# Altium footprint library Discrete_t1.PcbLib: 293 footprints (part 14 of 19)
Each footprint in its own frame and in the unit in brackets; x right, y up, seen from the top. Pads: shape width x height; smd on the part's side, far side on the other; paste and mask are expansions set on the pad; w line width, h text height; cw(c..) or ccw(c..) is an arc to the next point about the centre after c.
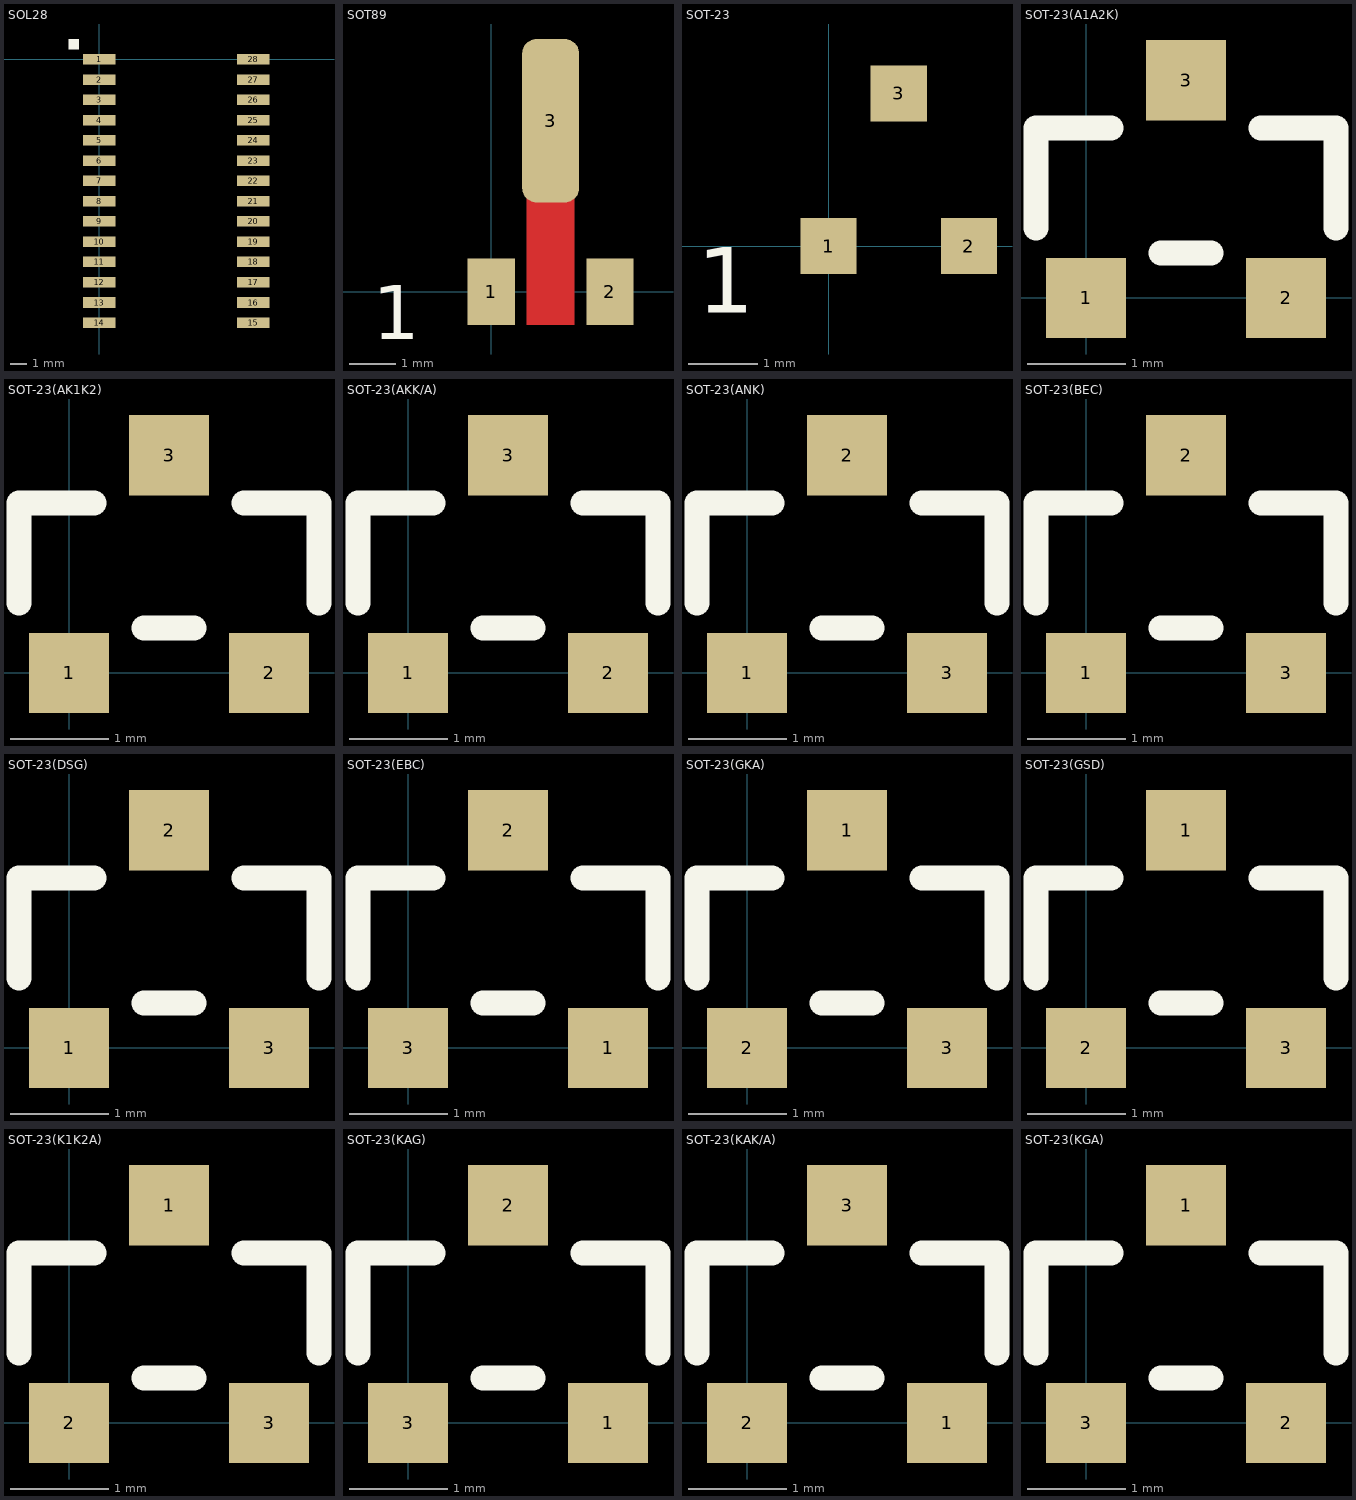
[diagram p13: the footprints below, top view; thin cyan lines are the x and y axes]

## SOL28 [mil]
pads (28):
  rect 80x26 smd: 1(0,0) 2(0,-50) 3(0,-100) 4(0,-150) 5(0,-200) 6(0,-250) 7(0,-300) 8(0,-350) 9(0,-400) 10(0,-450) 11(0,-500) 12(0,-550) 13(0,-600) 14(0,-650) 15(380,-650) 16(380,-600) 17(380,-550) 18(380,-500) 19(380,-450) 20(380,-400) 21(380,-350) 22(380,-300) 23(380,-250) 24(380,-200) 25(380,-150) 26(380,-100) 27(380,-50) 28(380,0)
Top Overlay:
  region: -75,25 -50,25 -50,50 -75,50

## SOT89 [mil]
pads (3):
  rect 40x56 smd: 1(0,0) 2(100,0)
  rrect50% 48x138 smd: 3(50,144)
Top Layer:
  region: 30,-28 70,-28 70,80 30,80
Top Overlay:
  text "1" at -100,-40 h45.62

## SOT-23 [mil]
pads (3):
  rect 32x32 smd: 1(0,0) 2(80,0) 3(40,87)
Top Overlay:
  text "1" at -75,-38 h37.5

## SOT-23(A1A2K) [mil]
pads (3):
  rect 32x32 smd: 1(0,0) 2(80,0) 3(40,87)
Top Overlay:
  lines w10: -20,28 -20,68 10,68 ; 30,18 50,18 ; 70,68 100,68 100,28

## SOT-23(AK1K2) [mil]
pads (3):
  rect 32x32 smd: 1(0,0) 2(80,0) 3(40,87)
Top Overlay:
  lines w10: -20,28 -20,68 10,68 ; 30,18 50,18 ; 70,68 100,68 100,28

## SOT-23(AKK/A) [mil]
pads (3):
  rect 32x32 smd: 1(0,0) 2(80,0) 3(40,87)
Top Overlay:
  lines w10: -20,28 -20,68 10,68 ; 30,18 50,18 ; 70,68 100,68 100,28

## SOT-23(ANK) [mil]
pads (3):
  rect 32x32 smd: 1(0,0) 2(40,87) 3(80,0)
Top Overlay:
  lines w10: -20,28 -20,68 10,68 ; 30,18 50,18 ; 70,68 100,68 100,28

## SOT-23(BEC) [mil]
pads (3):
  rect 32x32 smd: 1(0,0) 2(40,87) 3(80,0)
Top Overlay:
  lines w10: -20,28 -20,68 10,68 ; 30,18 50,18 ; 70,68 100,68 100,28

## SOT-23(DSG) [mil]
pads (3):
  rect 32x32 smd: 1(0,0) 2(40,87) 3(80,0)
Top Overlay:
  lines w10: -20,28 -20,68 10,68 ; 30,18 50,18 ; 70,68 100,68 100,28

## SOT-23(EBC) [mil]
pads (3):
  rect 32x32 smd: 1(80,0) 2(40,87) 3(0,0)
Top Overlay:
  lines w10: -20,28 -20,68 10,68 ; 30,18 50,18 ; 70,68 100,68 100,28

## SOT-23(GKA) [mil]
pads (3):
  rect 32x32 smd: 1(40,87) 2(0,0) 3(80,0)
Top Overlay:
  lines w10: -20,28 -20,68 10,68 ; 30,18 50,18 ; 70,68 100,68 100,28

## SOT-23(GSD) [mil]
pads (3):
  rect 32x32 smd: 1(40,87) 2(0,0) 3(80,0)
Top Overlay:
  lines w10: -20,28 -20,68 10,68 ; 30,18 50,18 ; 70,68 100,68 100,28

## SOT-23(K1K2A) [mil]
pads (3):
  rect 32x32 smd: 1(40,87) 2(0,0) 3(80,0)
Top Overlay:
  lines w10: -20,28 -20,68 10,68 ; 30,18 50,18 ; 70,68 100,68 100,28

## SOT-23(KAG) [mil]
pads (3):
  rect 32x32 smd: 1(80,0) 2(40,87) 3(0,0)
Top Overlay:
  lines w10: -20,28 -20,68 10,68 ; 30,18 50,18 ; 70,68 100,68 100,28

## SOT-23(KAK/A) [mil]
pads (3):
  rect 32x32 smd: 1(80,0) 2(0,0) 3(40,87)
Top Overlay:
  lines w10: -20,28 -20,68 10,68 ; 30,18 50,18 ; 70,68 100,68 100,28

## SOT-23(KGA) [mil]
pads (3):
  rect 32x32 smd: 1(40,87) 2(80,0) 3(0,0)
Top Overlay:
  lines w10: -20,28 -20,68 10,68 ; 30,18 50,18 ; 70,68 100,68 100,28